# Altium schematic symbol library CP2102N-A02-GQFN24R.Schlib: 1 symbol
Pins are listed as number, name and electrical type; pins without a type are passive.

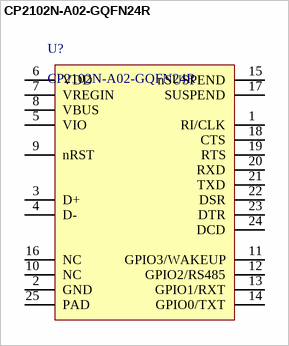
[diagram p0: symbol CP2102N-A02-GQFN24R]

## CP2102N-A02-GQFN24R
designator U?
USB Bridge, USB to UART USB 2.0 UART Interface 24-QFN (4x4)
pins: 1 RI/CLK, 2 GND, 3 D+, 4 D-, 5 VIO, 6 VDD, 7 VREGIN, 8 VBUS, 9 nRST, 10 NC, 11 GPIO3/WAKEUP, 12 GPIO2/RS485, 13 GPIO1/RXT, 14 GPIO0/TXT, 15 nSUSPEND, 16 NC, 17 SUSPEND, 18 CTS, 19 RTS, 20 RXD, 21 TXD, 22 DSR, 23 DTR, 24 DCD, 25 PAD